# EAGLE library part LIS (library TIStellarisLaunchpad)
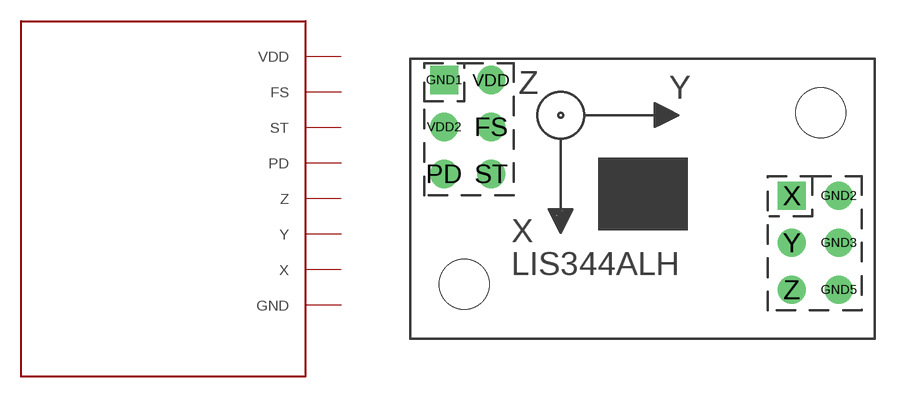
[diagram p3: symbol with the pads of LIS344; footprint LIS344]

Designator prefix -

## LIS  [LIS344]
FS  FS
GND1  GND
GND2  GND
GND3  GND
GND5  GND
PD  PD
ST  ST
VDD  VDD
VDD2  VDD
X  X
Y  Y
Z  Z

## Footprint LIS344 (pad centres in mm)
drill 1.016 pad 1.422: FS 4.37,11.43; GND2 23.15,7.72; GND3 23.15,5.18; GND5 23.15,2.64; PD 1.83,8.89; ST 4.37,8.89; VDD 4.37,13.97; VDD2 1.83,11.43; Y 20.61,5.18; Z 20.61,2.64
drill 1.016 pad 1.422 square: GND1 1.83,13.97; X 20.61,7.72
hole 2.7 at 2.921,2.921
hole 2.7 at 22.169,12.192